# EAGLE library part LTC3633 (library kwoo)
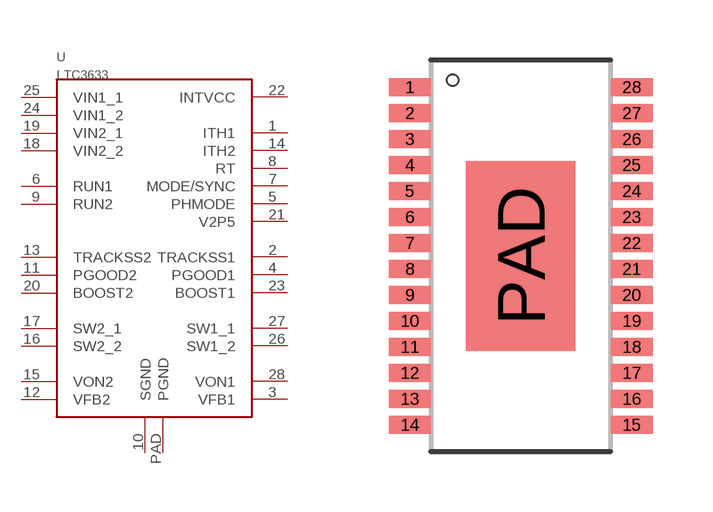
[diagram p39: symbol with the pads of TSSOP28; footprint TSSOP28]

Designator prefix U

## LTC3633  [TSSOP28]
1  ITH1
2  TRACKSS1
3  VFB1
4  PGOOD1
5  PHMODE
6  RUN1
7  MODE/SYNC
8  RT
9  RUN2
10  SGND
11  PGOOD2
12  VFB2
13  TRACKSS2
14  ITH2
15  VON2
16  SW2_2
17  SW2_1
18  VIN2_2
19  VIN2_1
20  BOOST2
21  V2P5
22  INTVCC
23  BOOST1
24  VIN1_2
25  VIN1_1
26  SW1_2
27  SW1_1
28  VON1
PAD  PGND

## Footprint TSSOP28 (pad centres in mm)
smd 1.05 x 0.45: 1 -2.775,4.225; 2 -2.775,3.575; 3 -2.775,2.925; 4 -2.775,2.275; 5 -2.775,1.625; 6 -2.775,0.975; 7 -2.775,0.325; 8 -2.775,-0.325; 9 -2.775,-0.975; 10 -2.775,-1.625; 11 -2.775,-2.275; 12 -2.775,-2.925; 13 -2.775,-3.575; 14 -2.775,-4.225; 15 2.775,-4.225; 16 2.775,-3.575; 17 2.775,-2.925; 18 2.775,-2.275; 19 2.775,-1.625; 20 2.775,-0.975; 21 2.775,-0.325; 22 2.775,0.325; 23 2.775,0.975; 24 2.775,1.625; 25 2.775,2.275; 26 2.775,2.925; 27 2.775,3.575; 28 2.775,4.225
smd 2.74 x 4.75: PAD 0,0